# Altium footprint library S-80847CNMC-B88T2G.PcbLib: 1 footprints
Each footprint in its own frame and in the unit in brackets; x right, y up, seen from the top. Pads: shape width x height; smd on the part's side, far side on the other; paste and mask are expansions set on the pad; w line width, h text height; cw(c..) or ccw(c..) is an arc to the next point about the centre after c.
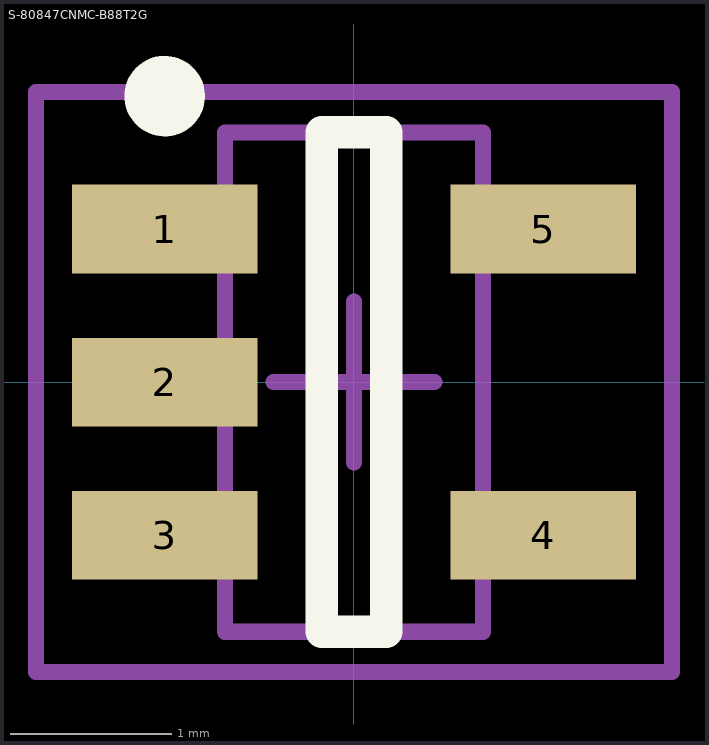
[diagram p0: the footprint, top view; thin cyan lines are the x and y axes]

## S-80847CNMC-B88T2G [mm] "Reset Supervisor, 4.7V"
height 1.3
pads (5):
  rect 1.15x0.55 smd: 1(-1.175,0.95) 2(-1.175,0) 3(-1.175,-0.95) 4(1.175,-0.95) 5(1.175,0.95)
Top Overlay:
  circle w0.25: c-1.175,1.775 r0.125
  lines w0.2: -0.2,-1.55 -0.2,1.55 0.2,1.55 0.2,-1.55 -0.2,-1.55
Mechanical 13:
  lines w0.1: -0.8,-1.55 0.8,-1.55 0.8,1.55 -0.8,1.55 -0.8,-1.55
Mechanical 15:
  lines w0.1: -0.5,0 0.5,0 ; 0,-0.5 0,0.5 ; -1.975,-1.8 1.975,-1.8 1.975,1.8 -1.975,1.8 -1.975,-1.8
3D body: height 1.3, standoff 0.15, extent -0.8,-1.55 0.8,1.55